# Altium schematic symbol library Diodes.SchLib: 6 symbols
Pins are listed as number, name and electrical type; pins without a type are passive.

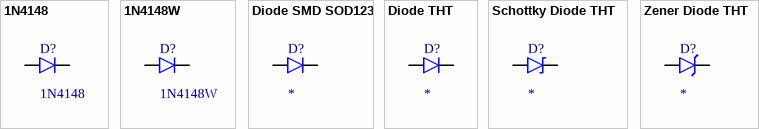
[diagram p0: symbols 1N4148 to Zener Diode THT]

## 1N4148
designator D?, comment Model: 1N4148  (hidden comment: DIODE)
1N4148 THT Axial Diode 10 mm Pitch; Max reverse voltage: *; Max current: *; Forward voltage: *; Package Type: THT; Type: Diode
footprint Diode THT 10 mm (THT axial diode 10 mm pitch)
pins: 1, 2

## 1N4148W
designator D?, comment Model: 1N4148W  (hidden comment: DIODE)
1N4148W SMD Diode SOD123 Package; Max reverse voltage: *; Max current: *; Forward voltage: *; Package Type: SMD; Type: Diode
footprint SOD-123
pins: 1, 2

## Diode SMD SOD123
designator D?, comment DIODE  (value not drawn)
Generic SMD Diode SOD123 Package; Max reverse voltage: *; Max current: *; Forward voltage: *; Package Type: SMD; Type: Diode; Model: *
footprint SOD-123
pins: 1, 2

## Diode THT
designator D?, comment DIODE  (value not drawn)
Generic THT Axial Diode 10 mm Pitch; Max reverse voltage: *; Max current: *; Forward voltage: *; Package Type: THT; Type: Diode; Model: *
footprint Diode THT 10 mm (THT axial diode 10 mm pitch)
pins: 1, 2

## Schottky Diode THT
designator D?, comment SCHOTTKY  (value not drawn)
Generic THT Axial Schottky Diode 10 mm Pitch; Max Reverse Voltage: *; Max Current: *; Package Type: THT; Type: Schottky; Model: *
footprint Diode THT 10 mm (THT axial diode 10 mm pitch)
pins: 1, 2

## Zener Diode THT
designator D?, comment ZENER  (value not drawn)
Generic THT Axial Zener Diode 10 mm Pitch; Zener voltage: *; Power diss: *; Package Type: THT; Type: Zener; Model: *
footprint Diode THT 10 mm (THT axial diode 10 mm pitch)
pins: 1, 2